# EAGLE library part F303K8 (library MyLib)
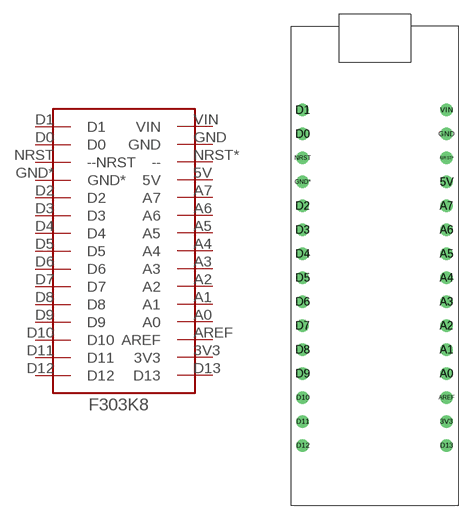
[diagram p0: symbol with the pads of F303K8; footprint F303K8]

Designator prefix -

## F303K8  [F303K8]
3V3  3V3
5V  5V
A0  A0
A1  A1
A2  A2
A3  A3
A4  A4
A5  A5
A6  A6
A7  A7
AREF  AREF
D0  D0
D1  D1
D2  D2
D3  D3
D4  D4
D5  D5
D6  D6
D7  D7
D8  D8
D9  D9
D10  D10
D11  D11
D12  D12
D13  D13
GND  GND
GND*  GND*
NRST  --NRST
NRST*  --
VIN  VIN

## Footprint F303K8 (pad centres in mm)
drill 0.8 pad 1.27: 3V3 7.62,-17.78; 5V 7.62,7.62; A0 7.62,-12.7; A1 7.62,-10.16; A2 7.62,-7.62; A3 7.62,-5.08; A4 7.62,-2.54; A5 7.62,0; A6 7.62,2.54; A7 7.62,5.08; AREF 7.62,-15.24; D0 -7.62,12.7; D1 -7.62,15.24; D2 -7.62,5.08; D3 -7.62,2.54; D4 -7.62,0; D5 -7.62,-2.54; D6 -7.62,-5.08; D7 -7.62,-7.62; D8 -7.62,-10.16; D9 -7.62,-12.7; D10 -7.62,-15.24; D11 -7.62,-17.78; D12 -7.62,-20.32; D13 7.62,-20.32; GND 7.62,12.7; GND* -7.62,7.62; NRST -7.62,10.16; NRST* 7.62,10.16; VIN 7.62,15.24